# Altium footprint library 74HC595.PcbLib: 1 footprints
Each footprint in its own frame and in the unit in brackets; x right, y up, seen from the top. Pads: shape width x height; smd on the part's side, far side on the other; paste and mask are expansions set on the pad; w line width, h text height; cw(c..) or ccw(c..) is an arc to the next point about the centre after c.
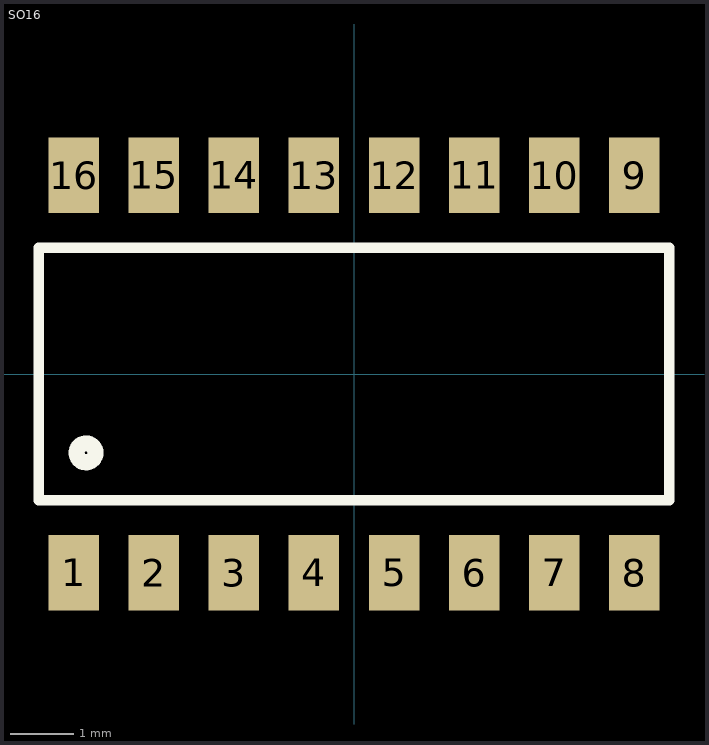
[diagram p0: the footprint, top view; thin cyan lines are the x and y axes]

## SO16 [mm]
height 1.75
pads (16):
  rect 0.8x1.2 smd: 1(-4.445,-3.15) 2(-3.175,-3.15) 3(-1.905,-3.15) 4(-0.635,-3.15) 5(0.635,-3.15) 6(1.905,-3.15) 7(3.175,-3.15) 8(4.445,-3.15) 9(4.445,3.15) 10(3.175,3.15) 11(1.905,3.15) 12(0.635,3.15) 13(-0.635,3.15) 14(-1.905,3.15) 15(-3.175,3.15) 16(-4.445,3.15)
Top Overlay:
  circle w0.254: c-4.25,-1.25 r0.15
  lines w0.165: -5,-2 -5,2 5,2 5,-2 -5,-2
3D body "User Library-so16-1.step": height 1.73, standoff -0.04, extent -4.985,-3.068 4.985,3.068